# Altium footprint library SOT-23-3L.PcbLib: 1 footprints
Each footprint in its own frame and in the unit in brackets; x right, y up, seen from the top. Pads: shape width x height; smd on the part's side, far side on the other; paste and mask are expansions set on the pad; w line width, h text height; cw(c..) or ccw(c..) is an arc to the next point about the centre after c.
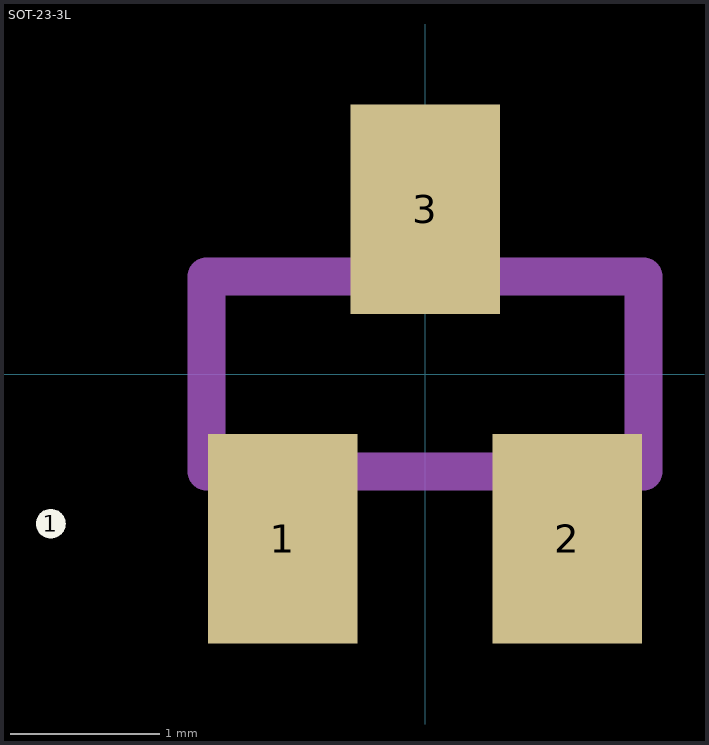
[diagram p0: the footprint, top view; thin cyan lines are the x and y axes]

## SOT-23-3L [mm] "SOT-23-3Las used in BSS138"
height 1.3
pads (4):
  round 0.2 on Top Overlay: 1(-2.5,-1)
  rect 1x1.4 smd: 1(-0.95,-1.1) 2(0.95,-1.1) 3(0,1.1)
Top Comp Body:
  lines w0.254: -1.46,-0.65 1.46,-0.65 1.46,0.65 -1.46,0.65 -1.46,-0.65